# Altium footprint library ARCOM_Special.PcbLib: 37 footprints (part 1 of 3)
Each footprint in its own frame and in the unit in brackets; x right, y up, seen from the top. Pads: shape width x height; smd on the part's side, far side on the other; paste and mask are expansions set on the pad; w line width, h text height; cw(c..) or ccw(c..) is an arc to the next point about the centre after c.
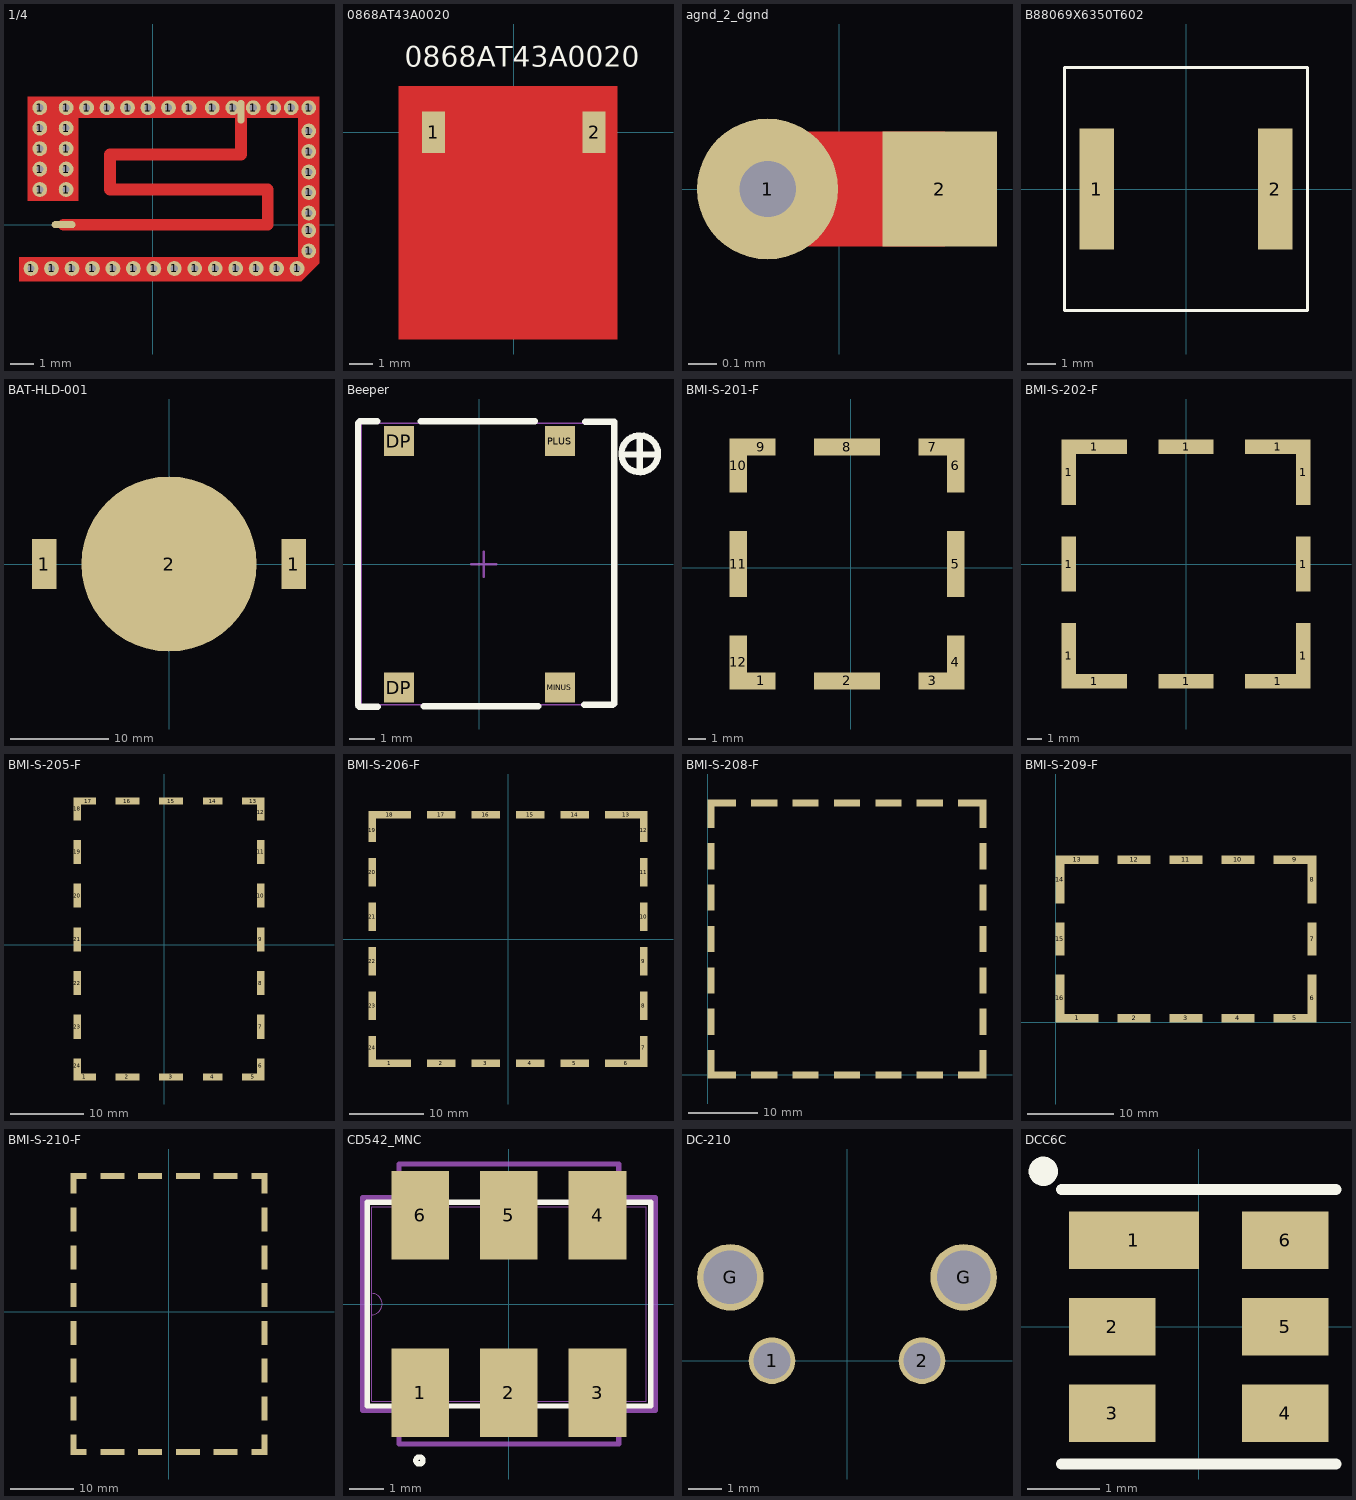
[diagram p0: the footprints below, top view; thin cyan lines are the x and y axes]

## 1/4 [mm]
pads (45):
  round 0.635 hole 0.305: 1(-5.2,-1.875) 1(-4.825,1.5) 1(-4.825,2.375) 1(-4.825,3.25) 1(-4.825,4.125) 1(-4.825,5) 1(-4.325,-1.875) 1(-3.7,1.5) 1(-3.7,2.375) 1(-3.7,3.25) 1(-3.7,4.125) 1(-3.7,5) 1(-3.45,-1.875) 1(-2.825,5) 1(-2.575,-1.875) 1(-1.95,5) 1(-1.7,-1.875) 1(-1.075,5) 1(-0.825,-1.875) 1(-0.2,5) 1(0.05,-1.875) 1(0.675,5) 1(0.925,-1.875) 1(1.55,5) 1(1.8,-1.875) 1(2.55,5) 1(2.675,-1.875) 1(3.425,5) 1(3.55,-1.875) 1(4.3,5) 1(4.425,-1.875) 1(5.175,5) 1(5.3,-1.875) 1(5.925,5) 1(6.175,-1.875) 1(6.675,-1.125) 1(6.675,-0.25) 1(6.675,0.5) 1(6.675,1.375) 1(6.675,2.25) 1(6.675,3.125) 1(6.675,4) 1(6.675,5)
  oval 0.305x1.016 smd: 1(3.775,4.826)
  oval 1.016x0.305 smd: 2(-3.81,0)
Top Layer:
  region: -5.715,-1.397 6.223,-1.397 6.223,4.572 -3.175,4.572 -3.175,1.016 -5.334,1.016 -5.334,5.461 7.112,5.461 7.112,-1.651 6.35,-2.413 -5.715,-2.413
  lines w0.498: -3.81,0 4.925,0 4.925,1.5 -1.825,1.5 -1.825,3 3.775,3 3.775,4.5

## 0868AT43A0020 [mm]
pads (2):
  rect 1x1.8 smd: 1(-3.5,0) 2(3.5,0)
Top Layer:
  rectangle: -2.6,-3.5 2,-3
  rectangle: -3.1,-5.5 -2.6,-3
  rectangle: -3.1,-6 3.5,-5.5
  rectangle: 3.5,-6 4,-0.9
  pour cut-out: -5,-9 4.5,-9 4.5,2 -5,2
Top Overlay:
  text "0868AT43A0020" at -4.75,2.54 h1.52

## agnd_2_dgnd [mil]
pads (2):
  round 19.68 hole 7.87: 1(-10,0)
  rect 16x16 smd paste-1000: 2(14,0)
Top Layer:
  lines w16: -10,0 14,0

## B88069X6350T602 [mm]
pads (2):
  rect 1.2x4.2 smd: 1(-3.1,0) 2(3.1,0)
Top Overlay:
  lines w0.102: -4.216,-4.216 4.216,-4.216 4.216,4.216 -4.216,4.216 -4.216,-4.216
3D body "B88069X6350T602.STEP": height 6.19, standoff -0.01, extent -4.143,-4.147 4.157,4.153

## BAT-HLD-001 [mm]
pads (3):
  rect 2.5x5.1 smd: 1(-12.7,0) 1(12.7,0)
  round 17.8 smd paste-9.652: 2(0,0)

## Beeper [mm]
pads (4):
  rect 1.2x1.2 smd: DP(-3.2,-4.9) DP(-3.2,4.9) MINUS(3.2,-4.9) PLUS(3.2,4.9)
Top Overlay:
  circle w0.254: c6.375,4.394 r0.727
  lines w0.254: -4.064,5.69 -4.75,5.69 -4.826,5.613 -4.826,-5.613 -4.775,-5.664 -4.039,-5.664 ; -2.337,5.69 2.21,5.69 ; -2.21,-5.639 2.337,-5.639 ; 4.166,-5.588 5.309,-5.588 5.359,-5.537 5.359,5.664 4.216,5.664 ; 5.664,4.369 7.077,4.369 ; 6.375,3.683 6.375,5.08
M15 Top Assy:
  lines w0.05: -4.699,-5.588 5.309,-5.588 5.309,5.613 -4.699,5.613 -4.699,-5.588
  lines w0.1: -0.322,0 0.678,0 ; 0.178,-0.5 0.178,0.5
3D body "SMT-1028-S-R.igs.1.x_t": height 3.5, standoff 0, extent -4.67,-5.415 5.33,5.385

## BMI-S-201-F [mm]
pads (12):
  rect 1.65x1 smd: 1(-5.128,-6.527) 3(4.722,-6.527) 7(4.722,6.933) 9(-5.128,6.933)
  rect 3.8x1 smd: 2(-0.203,-6.527) 8(-0.203,6.933)
  rect 1x3.13 smd: 4(6.047,-5.462) 6(6.047,5.868) 10(-6.453,5.868) 12(-6.453,-5.462)
  rect 1x3.8 smd: 5(6.047,0.203) 11(-6.453,0.203)

## BMI-S-202-F [mm]
pads (12):
  rect 1x4.55 smd: 1(-8.15,-6.375) 1(-8.15,6.375) 1(8.15,-6.375) 1(8.15,6.375)
  rect 1x3.8 smd: 1(-8.15,0) 1(8.15,0)
  rect 4.55x1 smd: 1(-6.375,-8.15) 1(-6.375,8.15) 1(6.375,-8.15) 1(6.375,8.15)
  rect 3.8x1 smd: 1(0,-8.15) 1(0,8.15)
3D body "BMI-S-202-F.STEP": height 3.6, standoff 0, extent -8.255,-8.255 8.245,8.245

## BMI-S-205-F [mm]
pads (24):
  rect 3.05x1 smd: 1(-10.94,-18.163) 5(12.21,-18.163) 13(12.21,19.737)
  rect 3.3x1 smd: 2(-5.065,-18.163) 3(0.935,-18.163) 15(0.935,19.737) 16(-5.065,19.737)
  rect 2.7x1 smd: 4(6.635,-18.163) 14(6.635,19.737)
  rect 1x2.05 smd: 6(13.235,-16.638) 24(-11.965,-16.638)
  rect 1x3.3 smd: 7(13.235,-11.263) 8(13.235,-5.263) 9(13.235,0.737) 10(13.235,6.737) 11(13.235,12.737) 19(-11.965,12.737) 20(-11.965,6.737) 21(-11.965,0.737) 22(-11.965,-5.263) 23(-11.965,-11.263)
  rect 1x2.15 smd: 12(13.235,18.162)
  rect 2.05x1 smd: 17(-10.44,19.737)
  rect 1x3.15 smd: 18(-11.965,18.662)
3D body "BMI-S-205-F.STEP": height 6.02, standoff 0.02, extent -12.141,-18.313 13.359,19.887

## BMI-S-206-F [mm]
pads (24):
  rect 5.71x1 smd: 1(-15.96,-16.74) 18(-15.96,16.74)
  rect 3.8x1 smd: 2(-9.005,-16.74) 3(-3.005,-16.74) 4(2.995,-16.74) 5(8.995,-16.74) 14(8.995,16.74) 15(2.995,16.74) 16(-3.005,16.74) 17(-9.005,16.74)
  rect 5.72x1 smd: 6(15.955,-16.74) 13(15.955,16.74)
  rect 1x3.14 smd: 7(18.315,-14.67) 12(18.315,14.67) 19(-18.315,14.67) 24(-18.315,-14.67)
  rect 1x3.8 smd: 8(18.315,-9) 9(18.315,-3) 10(18.315,3) 11(18.315,9) 20(-18.315,9) 21(-18.315,3) 22(-18.315,-3) 23(-18.315,-9)
3D body "BMI-S-206-F.STEP": height 5.11, standoff 0.03, extent -18.717,-17.142 18.717,17.142

## BMI-S-208-F [mm]
pads (28):
  rect 1x4.1 smd: 1(0.5,1.55) 1(0.5,37.85) 1(39.9,1.55) 1(39.9,37.85)
  rect 1x3.8 smd: 1(0.5,7.7) 1(0.5,13.7) 1(0.5,19.7) 1(0.5,25.7) 1(0.5,31.7) 1(39.9,7.7) 1(39.9,13.7) 1(39.9,19.7) 1(39.9,25.7) 1(39.9,31.7)
  rect 4.1x1 smd: 1(2.05,0) 1(2.05,39.4) 1(38.35,0) 1(38.35,39.4)
  rect 3.8x1 smd: 1(8.2,0) 1(8.2,39.4) 1(14.2,0) 1(14.2,39.4) 1(20.2,0) 1(20.2,39.4) 1(26.2,0) 1(26.2,39.4) 1(32.2,0) 1(32.2,39.4)
3D body "bmi-s-208-f-stp-file.STP": height 7, standoff 0, extent 0.4,-0.1 40,39.5

## BMI-S-209-F [mm]
pads (16):
  rect 4.98x1 smd: 1(2.49,0.5) 5(27.67,0.5) 9(27.67,18.8) 13(2.49,18.8)
  rect 3.8x1 smd: 2(9.08,0.5) 3(15.08,0.5) 4(21.08,0.5) 10(21.08,18.8) 11(15.08,18.8) 12(9.08,18.8)
  rect 1x5.55 smd: 6(29.66,2.775) 8(29.66,16.525) 14(0.5,16.525) 16(0.5,2.775)
  rect 1x3.8 smd: 7(29.66,9.65) 15(0.5,9.65)

## BMI-S-210-F [mm]
pads (28):
  rect 1x3.3 smd: 1(15.177,-21.137) 8(15.177,20.363) 15(-15.123,20.363) 22(-15.123,-21.137)
  rect 1x3.8 smd: 2(15.177,-15.387) 3(15.177,-9.387) 4(15.177,-3.387) 5(15.177,2.613) 6(15.177,8.613) 7(15.177,14.613) 16(-15.123,14.613) 17(-15.123,8.613) 18(-15.123,2.613) 19(-15.123,-3.387) 20(-15.123,-9.387) 21(-15.123,-15.387)
  rect 1.55x1 smd: 9(13.902,21.513) 14(-13.848,21.513) 23(-13.848,-22.287) 28(13.902,-22.287)
  rect 3.8x1 smd: 10(9.027,21.513) 11(3.027,21.513) 12(-2.973,21.513) 13(-8.973,21.513) 24(-8.973,-22.287) 25(-2.973,-22.287) 26(3.027,-22.287) 27(9.027,-22.287)

## CD542_MNC [mm]
pads (6):
  rect 1.65x2.54 smd paste+0 mask+0: 1(-2.54,-2.54) 2(0,-2.54) 3(2.54,-2.54) 4(2.54,2.54) 5(0,2.54) 6(-2.54,2.54)
Top Overlay:
  circle w0.152: c-2.565,-4.484 r0.102
  lines w0.152: -3.228,-2.921 -4.064,-2.921 -4.064,2.921 -3.228,2.921 ; -1.852,-2.921 -0.688,-2.921 ; -1.852,2.921 -0.688,2.921 ; 0.688,-2.921 1.852,-2.921 ; 0.688,2.921 1.852,2.921 ; 3.228,-2.921 4.064,-2.921 4.064,2.921 3.228,2.921
Mechanical 13:
  circle w0: c-2.54,-2.794 r0.076
  lines w0: -3.937,-0.305 ccw(c-3.937,0) -3.937,0.305
  lines w0.025: -3.937,-2.794 -3.937,2.794 3.937,2.794 3.937,-2.794 -3.937,-2.794
M15 Top Assy:
  lines w0.152: -4.191,-3.048 -3.15,-3.048 -3.15,-4.013 3.15,-4.013 3.15,-3.048 4.191,-3.048 4.191,3.048 3.15,3.048 3.15,4.013 -3.15,4.013 -3.15,3.048 -4.191,3.048 -4.191,-3.048
3D body "CD542_MNC.step": height 2.85, standoff 0, extent -3.937,-3.454 3.937,3.454

## DC-210 [mm] "Push-button"
pads (4):
  round 1.4 hole 1.1: 1(-2.25,0) 2(2.25,0)
  round 2 hole 1.6: G(-3.5,2.5) G(3.5,2.5)
3D body "evqpf304r.stp": height 7.36, standoff -3.64, extent -4.304,-3.762 4.305,4.088

## DCC6C [mm]
pads (6):
  rect 1.8x0.8 smd paste-25.4: 1(-0.9,1.2)
  rect 1.2x0.8 smd paste-25.4: 2(-1.2,0) 3(-1.2,-1.2) 4(1.2,-1.2) 5(1.2,0) 6(1.2,1.2)
Top Overlay:
  circle w0.203: c-2.159,2.159 r0.102
  lines w0.152: -1.905,-1.905 1.905,-1.905 ; -1.905,1.905 -1.143,1.905 1.905,1.905